# EAGLE library part SSD1306 (library ds_displays)
0.96in 128x64 OLED, SPI interfész 6P
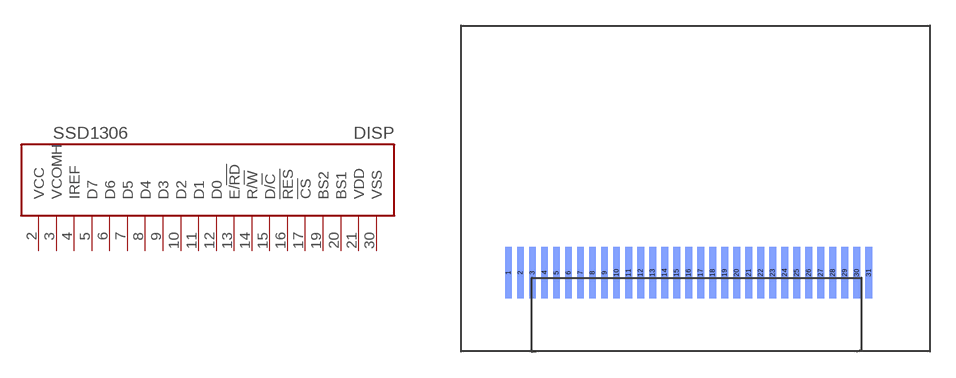
[diagram p0: symbol with the pads of SSD1306; footprint SSD1306]

Designator prefix DISP

## SSD1306  [SSD1306]
2  VCC
3  VCOMH
4  IREF
5  D7
6  D6
7  D5
8  D4
9  D3
10  D2
11  D1
12  D0
13  E/!RD
14  R/!W
15  D/!C
16  !RES
17  !CS
19  BS2
20  BS1
21  VDD
30  VSS

## Footprint SSD1306 (pad centres in mm)
smd 0.4 x 3 bottom: 1 -9.95,-5.01; 2 -9.25,-5.01; 3 -8.55,-5.01; 4 -7.85,-5.01; 5 -7.15,-5.01; 6 -6.45,-5.01; 7 -5.75,-5.01; 8 -5.05,-5.01; 9 -4.35,-5.01; 10 -3.65,-5.01; 11 -2.95,-5.01; 12 -2.25,-5.01; 13 -1.55,-5.01; 14 -0.85,-5.01; 15 -0.15,-5.01; 16 0.55,-5.01; 17 1.25,-5.01; 18 1.95,-5.01; 19 2.65,-5.01; 20 3.35,-5.01; 21 4.05,-5.01; 22 4.75,-5.01; 23 5.45,-5.01; 24 6.15,-5.01; 25 6.85,-5.01; 26 7.55,-5.01; 27 8.25,-5.01; 28 8.95,-5.01; 29 9.65,-5.01; 30 10.35,-5.01; 31 11.05,-5.01